# Altium schematic symbol library CC0402KRX7R9BB103.SchLib: 1 symbol
Pins are listed as number, name and electrical type; pins without a type are passive.

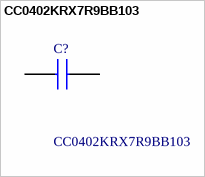
[diagram p0: symbol CC0402KRX7R9BB103]

## CC0402KRX7R9BB103
designator C?
Multilayer Ceramic Capacitors MLCC - SMD/SMT 50V 0.01uF X7R 0402 10%; Manufacturer_Name: Yageo Group; Geometry.Height: 0.55mm; Mouser Part Number: 603-CC402KRX7R9BB103; Mouser Price/Stock: https://www.mouser.co.uk/ProductDetail/YAGEO/CC0402KRX7R9BB103?qs=rEZiXmXGZa%252BpBmDCpwG%252B9w%3D%3D; Manufacturer_Part_Number: CC0402KRX7R9BB103; Datasheet Link: https://www.yageo.com/upload/media/product/productsearch/datasheet/mlcc/UPY-GPHC_X7R_6.3V-to-250V_23.pdf
footprint CAPC1005X55N
pins: 1, 2